# Altium schematic symbol library Schlib_Proton.SchLib: 7 symbols
Pins are listed as number, name and electrical type; pins without a type are passive.

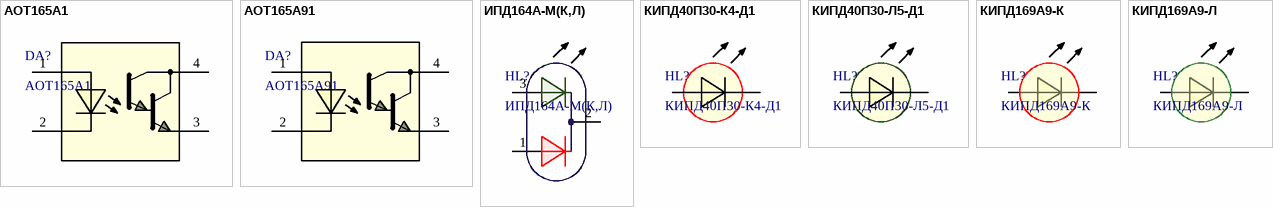
[diagram p0: symbols АОТ165А1 to КИПД169А9-Л]

## АОТ165А1
designator DA?
4-PIN PHOTOTRANSISTOR OPTOCOUPLERS; Manufacturer: АО «ПРОТОН»; ТУ: АДБК.432220.725 ТУ; Part Number: АОТ165А1; Package: DIP-4
footprint DIP-4P (Plastic DIP, 4 pin, lead pitch 2.54mm (0.1"), row spacing 7.62mm (0.3").)
pins: 1, 2, 3, 4

## АОТ165А91
designator DA?
4-PIN PHOTOTRANSISTOR OPTOCOUPLERS; Manufacturer: АО «ПРОТОН»; ТУ: АДБК.432220.725 ТУ; Part Number: АОТ165А91; Package: SMD-4
footprint DIP-4_SMD (FAIRCHILD)
pins: 1, 2, 3, 4

## ИПД164А-М(К,Л)
designator HL?
5mm red green, wavelenght 505-515 nm; Manufacturer: АО «ПРОТОН»; Designator: HL*; Color: Green (555-575 nm), Red (635-655 nm); ТУ: АДБК.432220.553 ТУ; Package: 5mm; Part Number: ИПД164А-М(К,Л)
footprint IPD164A (LED 5mm Red/Green)
pins: 1, 2, 3

## КИПД40П30-К4-Д1
designator HL?
5mm red led, wavelenght 620-630 nm; Manufacturer: АО «ПРОТОН»; Designator: HL*; Color: Red (620-630 nm); ТУ: АДБК.432220.553 ТУ; Package: 5mm; Part Number: КИПД40П30-К4-Д1
footprint KIPD40_RED (LED 5mm Red)
pins: 1, 2

## КИПД40П30-Л5-Д1
designator HL?
5mm red green, wavelenght 505-515 nm; Manufacturer: АО «ПРОТОН»; Designator: HL*; Color: Green (505-515 nm); ТУ: АДБК.432220.553 ТУ; Package: 5mm; Part Number: КИПД40П30-Л5-Д1
footprint KIPD40_GREEN (LED 5mm Green)
pins: 1, 2

## КИПД169А9-К
designator HL?
Red led (package case 0603); Manufacturer: АО «ПРОТОН»; Designator: HL*; Color: Red (630 ± 20 nm); Package: 0603; Part Number: КИПД169А9-К
footprint LED0603R (LED 0603 Red)
pins: 1, 2

## КИПД169А9-Л
designator HL?
Green led (package case 0603); Manufacturer: АО «ПРОТОН»; Designator: HL*; Color: Green (565 ± 15 nm); Package: 0603; Part Number: КИПД169А9-Л
footprint LED0603G (LED 0603 Green)
pins: 1, 2